# Altium schematic symbol library SPW47N60.SchLib: 1 symbol
Pins are listed as number, name and electrical type; pins without a type are passive.

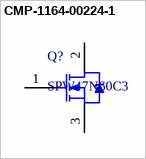
[diagram p0: symbol CMP-1164-00224-1]

## CMP-1164-00224-1
designator Q?, comment SPW47N60C3
N-Channel CoolMOS Power-Transistor, 600 V VDS, 47 A ID, -55 to 150 degC, PG-TO247-3-44, Tube, Green; Manufacturer: Infineon; Polarity: N; Ptot (max): 415Â W; Rth: 0.3Â K/W; VGS(th) (min): 2.1Â V; ID (max): 47Â A; RthJA (max): 62Â K/W; VGS(th) (max): 3.9Â V; Green: TRUE; VDS (max): 600Â V; RDS (on) (max): 70Â mOhm; IDpuls (max): 141Â A; QG: 252Â nC; ComponentLink1Description: Manufacturer URL; Mounting Technology: Through Hole; ComponentLink1URL: http://www.infineon.com/; Technology: CoolMOS C3; PackageDescription: 3-Pin Plastic (Green) Transistor Single Outline Package, 15.94 x 20.95 mm Body, 5.44 mm Pitch; DatasheetVersion: Rev. 2.6; ComponentLink3Description: Package Specification; PackageReference: PG-TO247-3-44; Halogen-free: available; ComponentLink3URL: http://www.infineon.com/cms/packages/Leaded_and_through-hole/P-PG-TO247/P-PG-TO247-3-44.html?__locale=en; ComponentLink2URL: http://www.infineon.com/dgdl/SPW47N60C3_Rev%5B1%5D.2.6_PCN.pdf?folderId=db3a304412b407950112b408e8c90004&fileId=db3a304412b407950112b42dff93492f; PartNumber: SPW47N60C3; RthJC (max): 0.3Â K/W; Packing: Tube; PackageVersion: Rev. 03; ComponentLink2Description: Datasheet
footprint INF-PG-TO247-3-44 (FM, 3-Leads, Body 5.02x15.94mm, Pitch 5.44mm)
pins: 1 GATE, 2 DRAIN, 3 SOURCE